# Altium footprint library CX2040LNLT.PcbLib: 1 footprints
Each footprint in its own frame and in the unit in brackets; x right, y up, seen from the top. Pads: shape width x height; smd on the part's side, far side on the other; paste and mask are expansions set on the pad; w line width, h text height; cw(c..) or ccw(c..) is an arc to the next point about the centre after c.
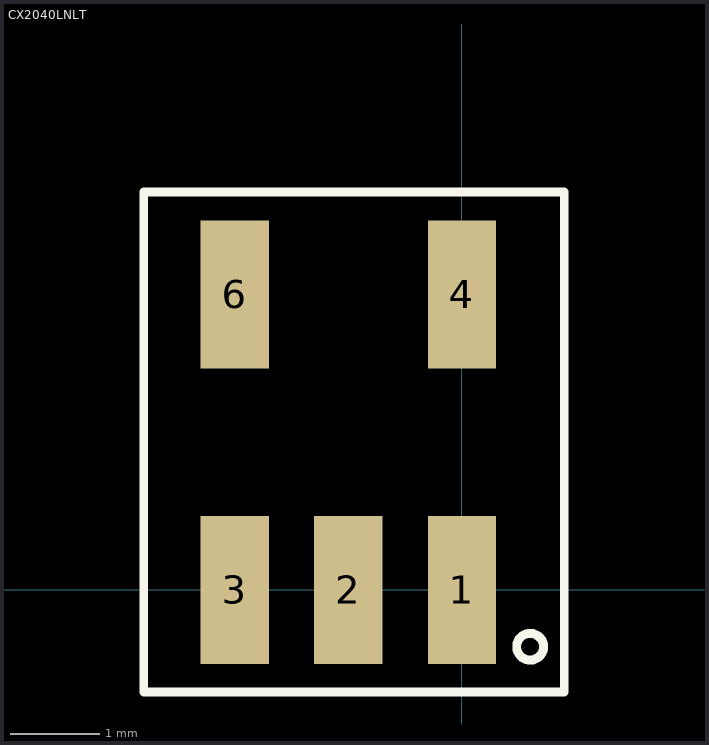
[diagram p0: the footprint, top view; thin cyan lines are the x and y axes]

## CX2040LNLT [mil] "RF AND WIRELESS BALUN TRANSFORMER"
height 110
pads (5):
  rect 30x65 smd: 1(0,0) 2(-50,0) 3(-100,0) 4(0,130) 6(-100,130)
Top Overlay:
  circle w3.94: c30,-25 r5.91
  lines w3.94: -140,-45 -140,175 45,175 45,-45 -140,-45